# Altium footprint library PCB_PassiveRes.PcbLib: 16 footprints
Each footprint in its own frame and in the unit in brackets; x right, y up, seen from the top. Pads: shape width x height; smd on the part's side, far side on the other; paste and mask are expansions set on the pad; w line width, h text height; cw(c..) or ccw(c..) is an arc to the next point about the centre after c.
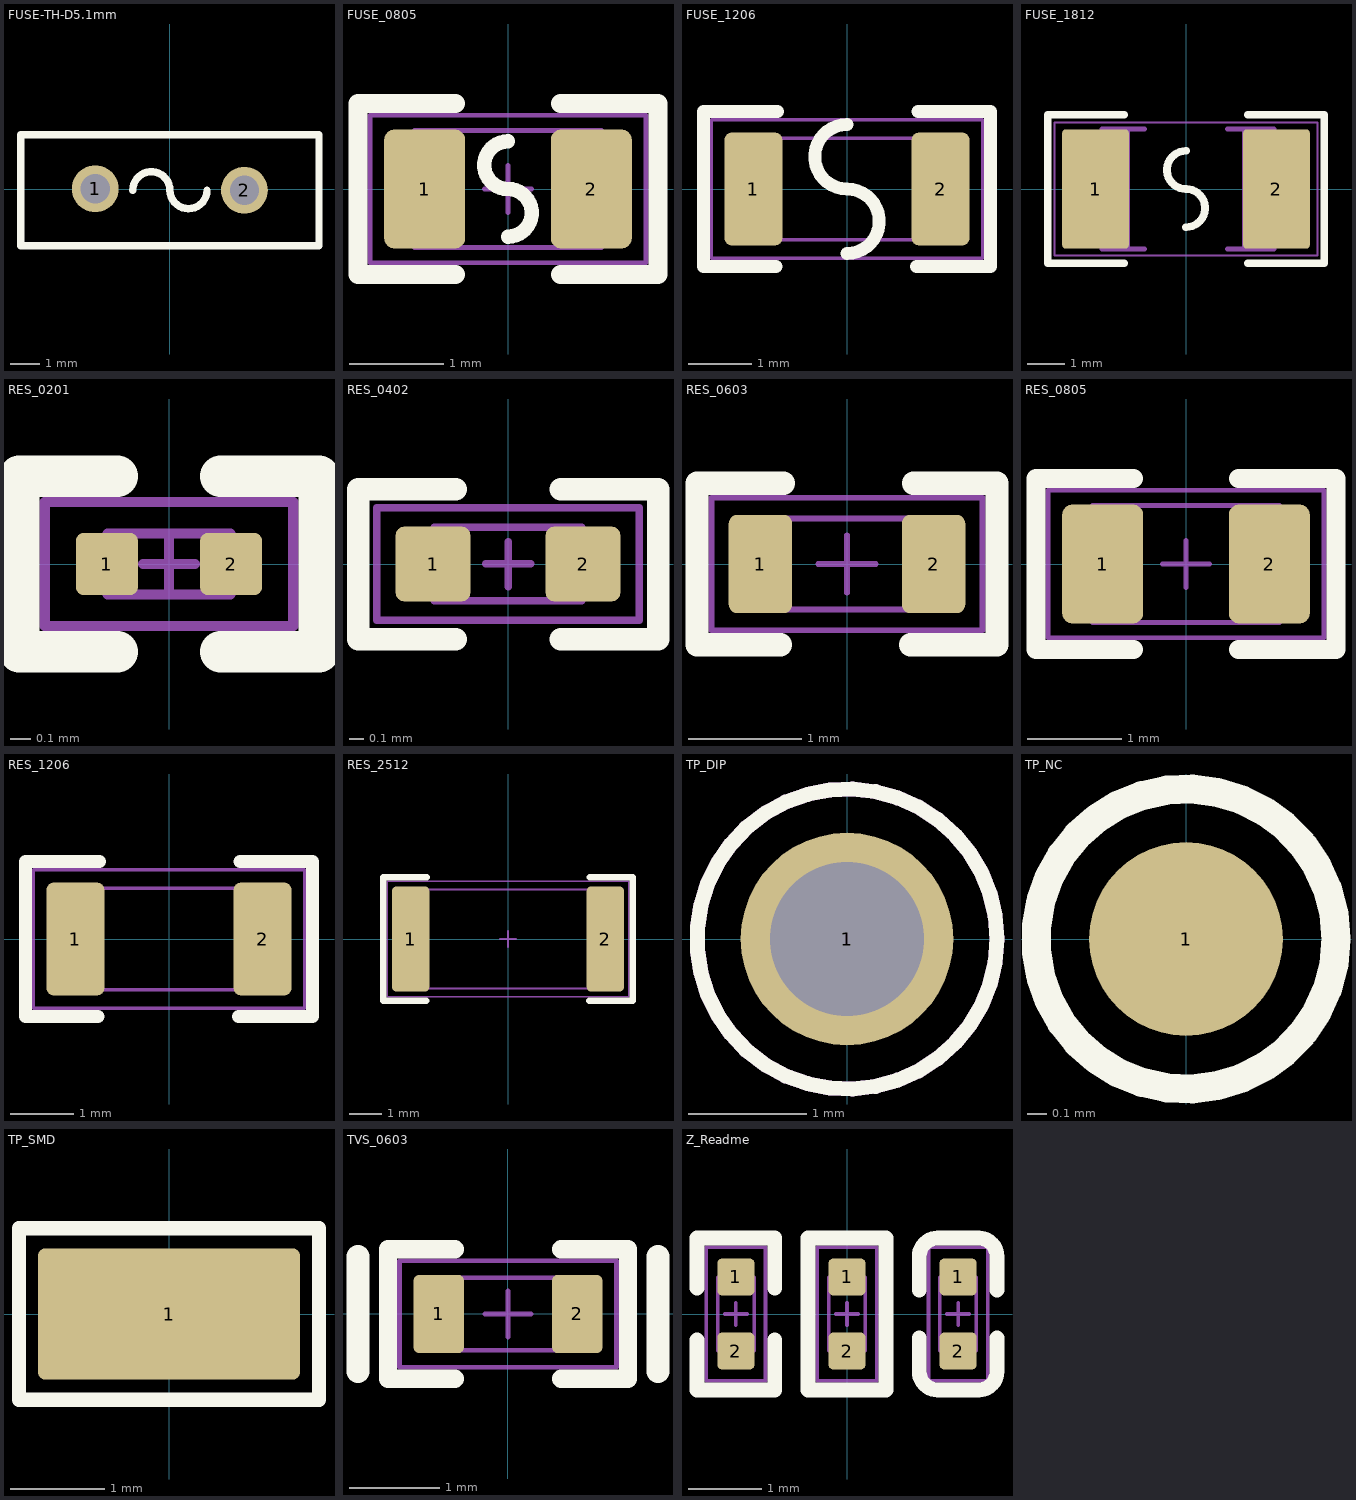
[diagram p0: the footprints below, top view; thin cyan lines are the x and y axes]

## FUSE-TH-D5.1mm [mm]
pads (2):
  round 1.6 hole 1 copper offset 0,0: 1(-2.55,0.027)
  round 1.6 hole 1: 2(2.55,-0.027)
Top Overlay:
  lines w0.254: -5.1,1.866 -5.1,-1.927 2.049,-1.927 3.05,-1.927 5.1,-1.927 5.1,1.873 -2.05,1.873 -3.051,1.873 -5.1,1.873 ; -1.27,-0.027 cw(c-0.635,-0.027) 0,-0.027 ccw(c0.635,-0.023) 1.27,-0.027
B-Component:
  region: -2.25,0.027 -2.25,0.087 -2.296,0.197 -2.38,0.282 -2.491,0.327 -2.61,0.327 -2.72,0.282 -2.805,0.197 -2.85,0.087 -2.85,0.027 -2.85,-0.033 -2.805,-0.143 -2.72,-0.227 -2.61,-0.273 -2.49,-0.273 -2.38,-0.227 -2.296,-0.143 -2.25,-0.032
  region: 2.85,-0.027 2.85,0.033 2.804,0.143 2.72,0.228 2.61,0.273 2.49,0.273 2.38,0.227 2.295,0.143 2.25,0.033 2.25,-0.027 2.25,-0.087 2.296,-0.197 2.38,-0.281 2.49,-0.327 2.61,-0.327 2.72,-0.281 2.804,-0.197 2.85,-0.087
  region: -5.04,1.9 -5.04,1.925 -5.075,1.96 -5.125,1.96 -5.16,1.925 -5.16,1.9 -5.16,1.875 -5.125,1.84 -5.075,1.84 -5.04,1.875
  lines w0.051: -5.1,-1.9 -5.1,1.9 5.1,1.9 5.1,-1.9 -5.1,-1.9
3D body "3D_PCB1_2024-04-03.step": height 11.09, standoff -3.5, extent -5.098,-1.898 5.098,1.898

## FUSE_0805 [mil]
pads (2):
  rrect25% 34x50 smd mask+2: 1(-35,0) 2(35,0)
Top Overlay:
  lines w6: 0,-20 ccw(c0,-10) 0,0 cw(c0,10) 0,20
  lines w8: -22,-36 -63,-36 -63,36 -22,36 ; 22,-36 63,-36 63,36 22,36
Mechanical 13:
  lines w2: -10,0 10,0 ; 0,-10 0,10 ; -39.37,-24.61 39.37,-24.61 39.37,24.61 -39.37,24.61 -39.37,-24.61
T-Component:
  lines w2: -58,-31 58,-31 58,31 -58,31 -58,-31
3D body "PICOASMDC010S-2.STEP": height 28.77, standoff 2, extent -41.34,-27.56 41.34,27.56

## FUSE_1206 [mil]
pads (2):
  rrect25% 36x70 smd: 1(-58,0) 2(58,0)
Top Overlay:
  lines w8: -44,-48 -89,-48 -89,48 -43,48 ; 0,-40 ccw(c0,-20) 0,0 cw(c0,20) 0,40 ; 43,-48 89,-48 89,48 44,48
Mechanical 13:
  lines w1.97: -62.99,-31.5 -62.99,31.5 62.99,31.5 62.99,-31.5 -62.99,-31.5
T-Component:
  lines w2: -84,-43 -84,43 84,43 84,-43 -84,-43
3D body "0ZCA0100FF2E.STEP": height 34.73, standoff 1.27, extent -63.98,-32.48 63.98,32.48

## FUSE_1812 [mil]
pads (2):
  rrect10% 70x125 smd: 1(-95,0) 2(95,0)
Top Overlay:
  lines w8: -65,-78 -145,-78 -145,78 -65,78 ; 0,-40 ccw(c0,-20) 0,0 cw(c0,20) 0,40 ; 65,-78 145,-78 145,78 65,78
Mechanical 13:
  region: 92.52,19.68 91.49,19.66 90.46,19.58 89.44,19.44 88.43,19.25 87.42,19.01 86.44,18.72 85.47,18.38 84.51,17.98 83.58,17.54 82.68,17.05 81.8,16.51 80.95,15.93 80.13,15.3 79.35,14.63 78.6,13.92 77.89,13.17 77.22,12.39 76.59,11.57 76.01,10.72 75.47,9.84 74.98,8.94 74.54,8.01 74.14,7.05 73.8,6.08 73.51,5.09 73.26,4.09 73.08,3.08 72.94,2.06 72.86,1.03 72.83,0 72.86,-1.03 72.94,-2.06 73.08,-3.08 73.26,-4.09 73.51,-5.09 73.8,-6.08 74.14,-7.05 74.54,-8.01 74.98,-8.94 75.47,-9.84 76.01,-10.72 76.59,-11.57 77.22,-12.39 77.89,-13.17 78.6,-13.92 79.35,-14.63 80.13,-15.3 80.95,-15.93 81.8,-16.51 82.68,-17.05 83.58,-17.54 84.51,-17.98 85.47,-18.38 86.44,-18.72 87.42,-19.01 88.43,-19.25 89.44,-19.44 90.46,-19.58 91.49,-19.66 92.52,-19.68 92.52,-62.99 59.06,-62.99 59.06,62.99 92.52,62.99
  region: -59.06,-62.99 -88.58,-62.99 -88.58,-19.68 -87.55,-19.66 -86.53,-19.58 -85.5,-19.44 -84.49,-19.25 -83.49,-19.01 -82.5,-18.72 -81.53,-18.38 -80.58,-17.98 -79.65,-17.54 -78.74,-17.05 -77.86,-16.51 -77.01,-15.93 -76.19,-15.3 -75.41,-14.63 -74.66,-13.92 -73.95,-13.17 -73.28,-12.39 -72.66,-11.57 -72.07,-10.72 -71.53,-9.84 -71.04,-8.94 -70.6,-8.01 -70.21,-7.05 -69.86,-6.08 -69.57,-5.09 -69.33,-4.09 -69.14,-3.08 -69.01,-2.06 -68.92,-1.03 -68.9,0 -68.92,1.03 -69.01,2.06 -69.14,3.08 -69.33,4.09 -69.57,5.09 -69.86,6.08 -70.21,7.05 -70.6,8.01 -71.04,8.94 -71.53,9.84 -72.07,10.72 -72.66,11.57 -73.28,12.39 -73.95,13.17 -74.66,13.92 -75.41,14.63 -76.19,15.3 -77.01,15.93 -77.86,16.51 -78.74,17.05 -79.65,17.54 -80.58,17.98 -81.53,18.38 -82.5,18.72 -83.49,19.01 -84.49,19.25 -85.5,19.44 -86.53,19.58 -87.55,19.66 -88.58,19.68 -88.58,62.99 -59.06,62.99
  lines w5: -43.31,-62.99 -88.58,-62.99 -88.58,-19.68 ccw(c-88.58,0) -88.58,19.68 -88.58,62.99 -43.31,62.99 ; 43.31,-62.99 92.52,-62.99 92.52,-19.68 cw(c92.52,0) 92.52,19.68 92.52,62.99 43.31,62.99
T-Component:
  lines w2: -138,-70 138,-70 138,70 -138,70 -138,-70
3D body "1812L050_30PR.STEP": height 49.21, standoff 0, extent -89.57,-63.78 89.57,63.78

## RES_0201 [mil]
height 9.06
pads (2):
  rrect25% 12x12 smd mask+2: 1(-12,0) 2(12,0)
Top Overlay:
  lines w8: -10,-17 -29,-17 -29,17 -10,17 ; 10,-17 29,-17 29,17 10,17
Mechanical 13:
  lines w2: -5,0 5,0 ; 0,-5 0,5 ; -11.81,-5.91 -11.81,5.91 11.81,5.91 11.81,-5.91 -11.81,-5.91
T-Component:
  lines w2: -24,-12 -24,12 24,12 24,-12 -24,-12
3D body "RESC0603X02L.step": height 9.06, standoff 0, extent -11.81,-5.9 11.81,5.91

## RES_0402 [mil]
height 13.78
pads (2):
  rrect25% 20x20 smd mask+2: 1(-20,0) 2(20,0)
Top Overlay:
  lines w6: -14,-20 -40,-20 -40,20 -14,20 ; 14,-20 40,-20 40,20 14,20
Mechanical 13:
  lines w2: -6,0 6,0 ; 0,-6 0,6 ; -19.69,-9.84 -19.69,9.84 19.68,9.84 19.68,-9.84 -19.69,-9.84
T-Component:
  lines w2: -35,-15 -35,15 35,15 35,-15 -35,-15
3D body "RESC1005X03L.step": height 13.78, standoff 0, extent -19.68,-9.84 19.69,9.85

## RES_0603 [mil]
height 17.72
pads (2):
  rrect25% 22x34 smd mask+2: 1(-30,0) 2(30,0)
Top Overlay:
  lines w8: -23,-28 -52,-28 -52,28 -22,28 ; 22,-28 52,-28 52,28 23,28
Mechanical 13:
  lines w2: -10,0 10,0 ; 0,-10 0,10 ; -31.5,-15.75 -31.5,15.75 31.5,15.75 31.5,-15.75 -31.5,-15.75
T-Component:
  lines w2: -47,-23 -47,23 47,23 47,-23 -47,-23
3D body "RESC1608X05L.step": height 17.72, standoff 0, extent -31.49,-15.74 31.5,15.75

## RES_0805 [mil]
height 23.62
pads (2):
  rrect25% 34x50 smd mask+2: 1(-35,0) 2(35,0)
Top Overlay:
  lines w8: -22,-36 -63,-36 -63,36 -22,36 ; 22,-36 63,-36 63,36 22,36
Mechanical 13:
  lines w2: -10,0 10,0 ; 0,-10 0,10 ; -39.37,-24.61 39.37,-24.61 39.37,24.61 -39.37,24.61 -39.37,-24.61
T-Component:
  lines w2: -58,-31 58,-31 58,31 -58,31 -58,-31
3D body "RESC2012X06L.step": height 23.62, standoff 0, extent -39.37,-24.61 39.37,24.61

## RES_1206 [mil]
pads (2):
  rrect25% 36x70 smd: 1(-58,0) 2(58,0)
Top Overlay:
  lines w8: -44,-48 -89,-48 -89,48 -43,48 ; 43,-48 89,-48 89,48 44,48
Mechanical 13:
  lines w1.97: -62.99,-31.5 -62.99,31.5 62.99,31.5 62.99,-31.5 -62.99,-31.5
T-Component:
  lines w2: -84,-43 -84,43 84,43 84,-43 -84,-43
3D body "RC1206.stp": height 21.65, standoff 0, extent -61.02,-31.5 61.02,31.5

## RES_2512 [mil]
height 23.62
pads (2):
  rrect25% 46x130 smd mask+2: 1(-120,0) 2(120,0)
Top Overlay:
  lines w8: -101,-76 -154,-76 -154,76 -100,76 ; 100,-76 154,-76 154,76 101,76
Mechanical 13:
  lines w2: -10,0 10,0 ; 0,-10 0,10 ; -124.02,-61.02 124.02,-61.02 124.02,61.02 -124.02,61.02 -124.02,-61.02
T-Component:
  lines w2: -149,-71 -149,71 149,71 149,-71 -149,-71
3D body "RC2512.stp": height 21.65, standoff 0, extent -125,-61.02 125,61.02

## TP_DIP [mm]
pads (1):
  round 1.8 hole 1.3: 1(0,0)
Top Overlay:
  circle w0.127: c0,0 r1.27
Mechanical 13:
  circle w0.127: c0,0 r1.27
3D body "5003--3DModel-STEP-630548.STEP": height 4.62, standoff -3, extent -1.261,-1.27 1.261,1.27

## TP_NC [mil]
pads (1):
  round 40 smd: 1(0,0)
Top Overlay:
  circle w6: c0,0 r31

## TP_SMD [mil]
pads (1):
  rrect10% 110x55 smd mask+2: 1(0,0)
Top Overlay:
  lines w6: -63,-36 63,-36 63,36 -63,36 -63,-36
3D body "3D_PCB1_2024-05-13.step": height 59.06, standoff 0, extent -49.19,-23.62 49.19,23.62

## TVS_0603 [mil]
height 17.72
pads (2):
  rrect25% 22x34 smd mask+2: 1(-30,0) 2(30,0)
Top Overlay:
  lines w8: -23,-28 -52,-28 -52,28 -23,28 ; 23,-28 52,-28 52,28 23,28
  lines w10: -65,-25 -65,25 ; 65,-25 65,25
Mechanical 13:
  lines w2: -10,0 10,0 ; 0,-10 0,10 ; -31.5,-15.75 31.5,-15.75 31.5,15.75 -31.5,15.75 -31.5,-15.75
T-Component:
  lines w2: -47,-23 47,-23 47,23 -47,23 -47,-23
3D body "User Library-0603ESDA.STEP": height 23.94, standoff 0.39, extent -33.46,-16.73 33.46,16.73

## Z_Readme [mil]
pads (6):
  rrect25% 20x20 smd mask+2: 1(-60,20) 1(0,20) 1(60,20) 2(-60,-20) 2(0,-20) 2(60,-20)
Top Overlay:
  lines w8: -81,-14 -81,-41 -39,-41 -39,-14 ; -81,14 -81,41 -39,41 -39,14 ; 39,-13 39,-31 ccw(c49,-31) 49,-41 71,-41 ccw(c71,-31) 81,-31 81,-13 ; 39,13 39,31 cw(c49,31) 49,41 71,41 cw(c71,31) 81,31 81,13 ; -21,-41 -21,41 21,41 21,-41 -21,-41
Mechanical 13:
  lines w2: -66,0 -54,0 ; -60,-6 -60,6 ; -6,0 6,0 ; 0,-6 0,6 ; 54,0 66,0 ; 60,-6 60,6 ; -69.84,-19.68 -69.84,19.69 -50.16,19.69 -50.16,-19.68 -69.84,-19.68 ; -9.84,-19.68 -9.84,19.69 9.84,19.69 9.84,-19.68 -9.84,-19.68 ; 50.16,-19.68 69.84,-19.68 69.84,19.69 50.16,19.69 50.16,-19.68
T-Component:
  lines w2: -76,-36 -44,-36 -44,36 -76,36 -76,-36 ; -16,-36 -16,36 16,36 16,-36 -16,-36 ; 44,-36 76,-36 76,36 44,36 44,-36
3D body "INDC1005X05L.step": height 19.68, standoff 0, extent -9.84,-19.69 9.85,19.68
3D body "RESC1005X03L.step": height 13.78, standoff 0, extent -69.84,-19.69 -50.15,19.68
3D body "C0402.stp": height 20.47, standoff 0.79, extent 50.16,-19.68 69.84,19.68

## Z_RES3D [mil]
3D body "Resistance Assembly.STEP": height -1338.49, standoff -1360.93, extent -557.13,418.32 977.28,1415.02
3D body "RC1206.stp": height 21.65, standoff 0, extent -103.02,95 19.02,157.99
3D body "RC0603.stp": height 17.72, standoff 0, extent 42.01,95.25 105,126.75
3D body "RC0402.stp": height 13.78, standoff 0, extent 65.63,58.16 105,77.84
3D body "RC0805.stp": height 19.68, standoff 0, extent -59.74,39.39 19,88.61
3D body "RC1210.stp": height 21.65, standoff 0, extent -104.05,167.82 18,270.18
3D body "RC2512.stp": height 21.65, standoff 0, extent 37,146 287,268.05
3D body "RC0201.stp": height 9.06, standoff 0, extent 80.38,37.09 104,48.91